# Altium integrated library BK-912-TR.IntLib: 1 symbol
Pins are listed as number, name and electrical type; pins without a type are passive.

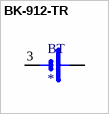
[diagram p0: symbol BK-912-TR]

## BK-912-TR
designator BT
Battery Retainer Coin, 20.0mm 1 Cell SMD _SMT_ Tab; MF: MPD _Memory; MP: BK-912-TR; Digi-Key_Purchase_URL: https://www.digikey.com/product-detail/en/mpd-memory-protection-devices/BK-912-TR/BK-912-CT-ND/2647828?utm_source=snapeda&utm_medium=aggregator&utm_campaign=symbol; Package: MSOP-12 MPD; SnapEDA_Link: https://www.snapeda.com/parts/BK-912-TR/MPD%20%28Memory%20Protection%20Devices%29/view-part/229797/?ref=snap; Digi-Key_Part_Number: BK-912-CT-ND; Value: *
footprint MPD_BK-912-TR
pins: 1 POS, 2 POS, 3 NEG